# EAGLE library part 74HC4067 (library miller)
74HC4067 16-channel multiplexer Example: Texas Instruments CD74HC4067M
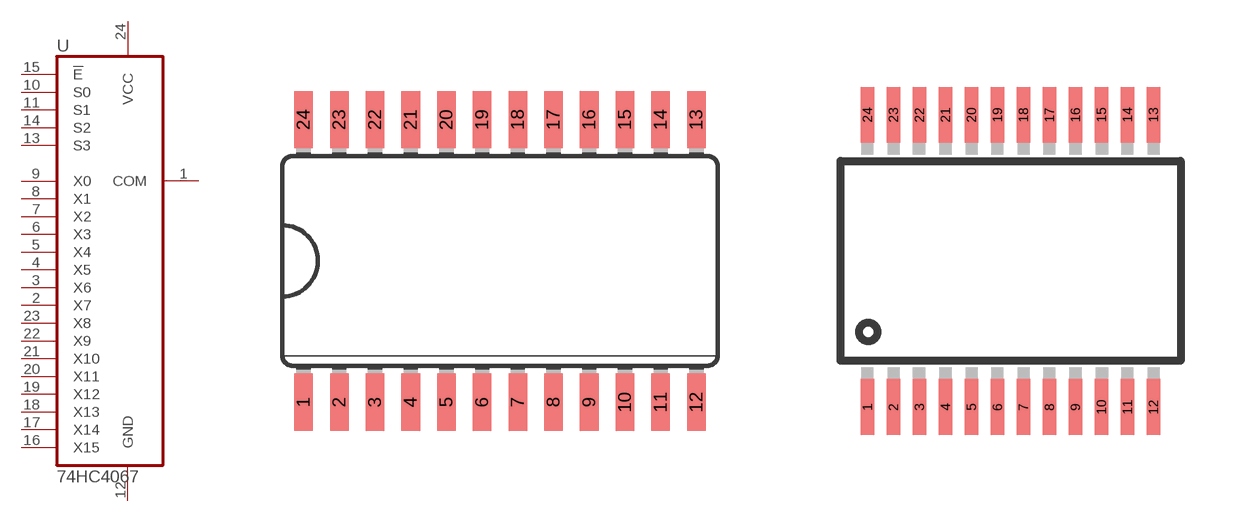
[diagram p34: symbol with the pads of SO24W; footprints SO24W, SSOP24]

Designator prefix -

## 74HC4067M  [SO24W]
1  COM  out
2  X7  in
3  X6  in
4  X5  in
5  X4  in
6  X3  in
7  X2  in
8  X1  in
9  X0  in
10  S0  in
11  S1  in
12  GND  pwr
13  S3  in
14  S2  in
15  !E  in
16  X15  in
17  X14  in
18  X13  in
19  X12  in
20  X11  in
21  X10  in
22  X9  in
23  X8  in
24  VCC  pwr

## 74HC4067SM96  [SSOP24]
Pads as for SO24W

## Footprint SO24W (pad centres in mm)
Wide Small Outline package 300 mil
smd 0.66 x 2.032: 1 -6.985,-5.029; 2 -5.715,-5.029; 3 -4.445,-5.029; 4 -3.175,-5.029; 5 -1.905,-5.029; 6 -0.635,-5.029; 7 0.635,-5.029; 8 1.905,-5.029; 9 3.175,-5.029; 10 4.445,-5.029; 11 5.715,-5.029; 12 6.985,-5.029; 13 6.985,5.029; 14 5.715,5.029; 15 4.445,5.029; 16 3.175,5.029; 17 1.905,5.029; 18 0.635,5.029; 19 -0.635,5.029; 20 -1.905,5.029; 21 -3.175,5.029; 22 -4.445,5.029; 23 -5.715,5.029; 24 -6.985,5.029

## Footprint SSOP24 (pad centres in mm)
TSSOP-24 or SSOP-24 0.65mm between pad centers, 0.348mm pad width x 1.397mm pad length 7.312mm between pad centers across body (appropriate for body width of 5.03mm/0.209")
smd 0.348 x 1.397: 1 -3.575,-3.656; 2 -2.925,-3.656; 3 -2.275,-3.656; 4 -1.625,-3.656; 5 -0.975,-3.656; 6 -0.325,-3.656; 7 0.325,-3.656; 8 0.975,-3.656; 9 1.625,-3.656; 10 2.275,-3.656; 11 2.925,-3.656; 12 3.575,-3.656; 13 3.575,3.656; 14 2.925,3.656; 15 2.275,3.656; 16 1.625,3.656; 17 0.975,3.656; 18 0.325,3.656; 19 -0.325,3.656; 20 -0.975,3.656; 21 -1.625,3.656; 22 -2.275,3.656; 23 -2.925,3.656; 24 -3.575,3.656